# Altium schematic symbol library Connector.SchLib: 2 symbols
Pins are listed as number, name and electrical type; pins without a type are passive.

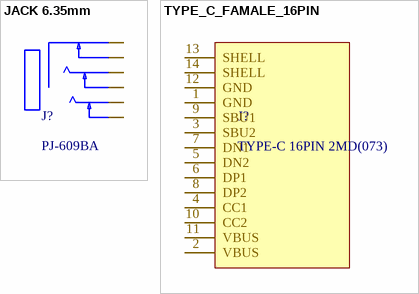
[diagram p0: symbols JACK 6.35mm to TYPE_C_FAMALE_16PIN]

## JACK 6.35mm
designator J?, comment PJ-609BA
-20℃~+70℃ 6.35mm Headphone Jack 50V 1A Through Hole Audio Connectors RoHS; Manufacturer: HOOYA; Key Attributes: CONN JACK STEREO 6.35mm TH; Mfr. Part #: PJ-609BA; LCSC Part #: C309277; Package: Through Hole; Link: https://www.lcsc.com/product-detail/C309277.html?s_z=n_audio%2520connectors
footprint JACK 6.35mm (-20?~+70? 6.35mm Headphone Jack 50V 1A Through Hole Audio Connectors RoHS)
pins: 2, 3, 4, 5, 6, 7

## TYPE_C_FAMALE_16PIN
designator J?, comment TYPE-C 16PIN 2MD(073)
3A 1 Surface Mount, Right Angle 16P Female -25℃~+85℃ Type-C SMD USB Connectors ROHS; Manufacturer: SHOU HAN; Mfr. Part #: TYPE-C 16PIN 2MD(073); LCSC Part #: C2765186; Package: SMD; Number of Contacts: 16P; Link: https://www.lcsc.com/product-detail/C2765186.html?s_z=n_type%2520c
footprint TYPE_C_FAMALE
pins: 1 GND, 2 VBUS, 3 SBU2, 4 CC1, 5 DN2, 6 DP1, 7 DN1, 8 DP2, 9 SBU1, 10 CC2, 11 VBUS, 12 GND, 13 SHELL, 14 SHELL